# Altium footprint library MOLEX_uSD_5009010801.PcbLib: 1 footprints
Each footprint in its own frame and in the unit in brackets; x right, y up, seen from the top. Pads: shape width x height; smd on the part's side, far side on the other; paste and mask are expansions set on the pad; w line width, h text height; cw(c..) or ccw(c..) is an arc to the next point about the centre after c.
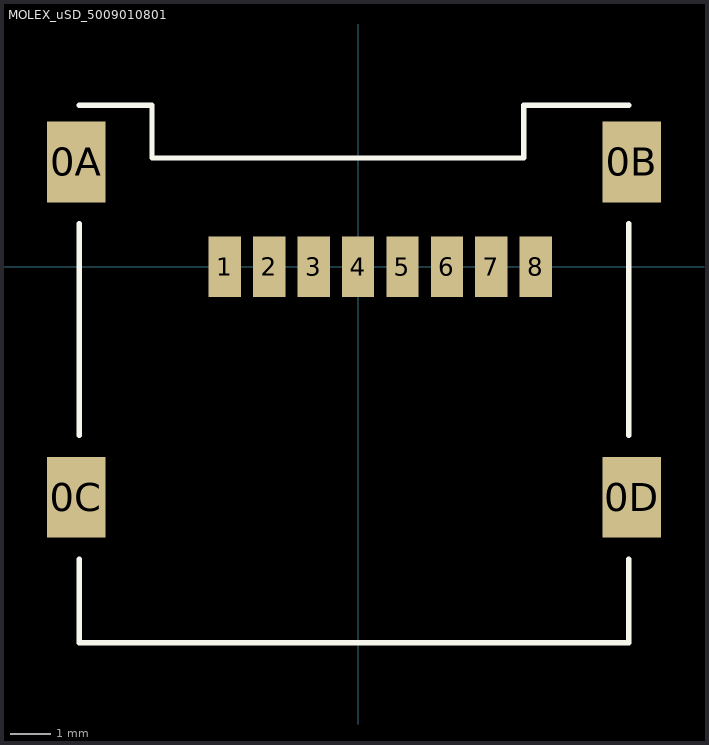
[diagram p0: the footprint, top view; thin cyan lines are the x and y axes]

## MOLEX_uSD_5009010801 [mm]
pads (12):
  rect 1.45x2 smd: 0A(-6.975,2.6) 0B(6.775,2.6) 0C(-6.975,-5.7) 0D(6.775,-5.7)
  rect 0.8x1.5 smd: 1(-3.3,0) 2(-2.2,0) 3(-1.1,0) 4(0,0) 5(1.1,0) 6(2.2,0) 7(3.3,0) 8(4.4,0)
Top Overlay:
  lines w0.127: -6.9,-7.232 -6.9,-9.3 6.7,-9.3 6.7,-7.232 ; -6.9,-4.168 -6.9,1.068 ; -6.9,4 -5.1,4 -5.1,2.7 4.1,2.7 4.1,4 6.7,4 ; 6.7,-4.168 6.7,1.068
3D body: height 1.93, standoff -0.02, extent -7.415,-9.322 7.185,5.178
3D body: height 1.95, standoff 0.97, extent -5.575,-9.31 5.425,5.69